# Altium footprint library LIANGJICHAO_LIBRARY.PCBLIB: 178 footprints (part 9 of 12)
Each footprint in its own frame and in the unit in brackets; x right, y up, seen from the top. Pads: shape width x height; smd on the part's side, far side on the other; paste and mask are expansions set on the pad; w line width, h text height; cw(c..) or ccw(c..) is an arc to the next point about the centre after c.
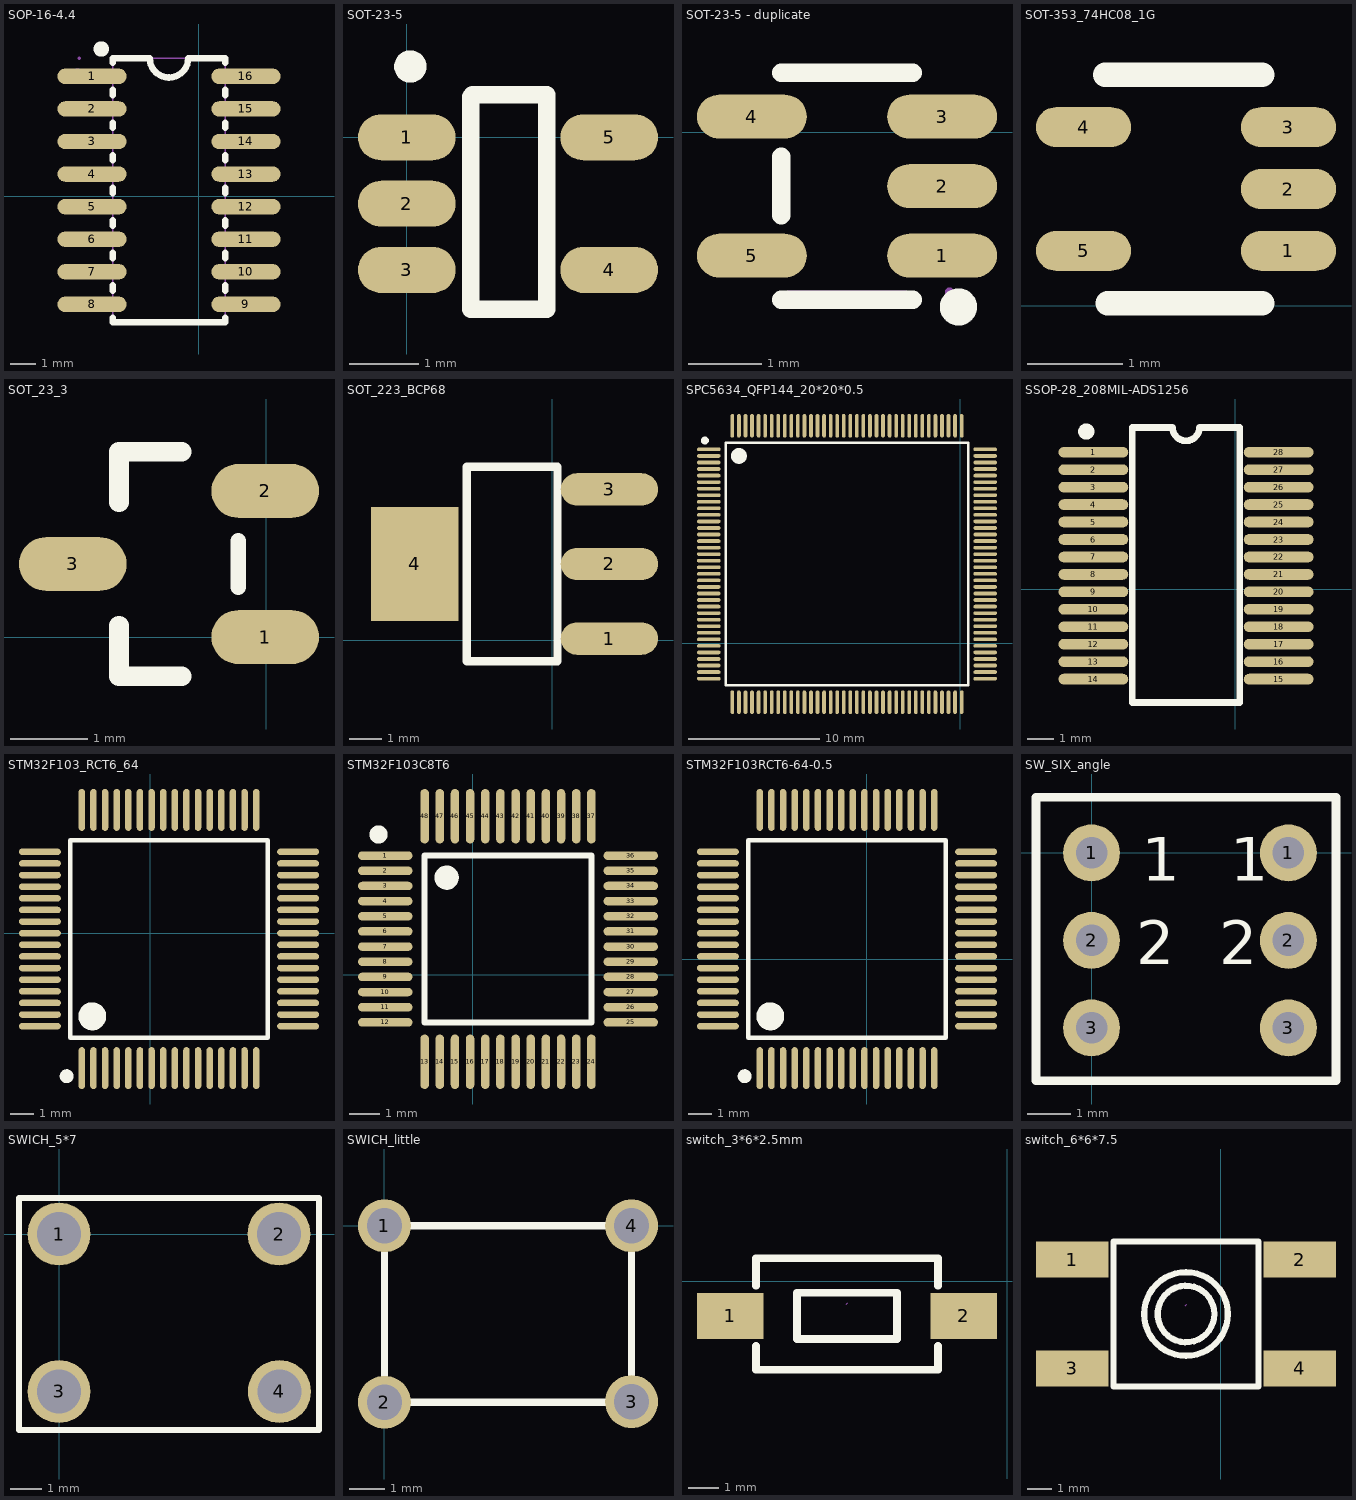
[diagram p8: the footprints below, top view; thin cyan lines are the x and y axes]

## SOP-16-4.4 [mm]
pads (16):
  oval 2.7x0.6 smd: 1(-4.158,4.676) 2(-4.158,3.406) 3(-4.158,2.136) 4(-4.158,0.866) 5(-4.158,-0.404) 6(-4.158,-1.674) 7(-4.158,-2.944) 8(-4.158,-4.214) 9(1.842,-4.214) 10(1.842,-2.944) 11(1.842,-1.674) 12(1.842,-0.404) 13(1.842,0.866) 14(1.842,2.136) 15(1.842,3.406) 16(1.842,4.676)
Top Overlay:
  lines w0.254: -3.358,-4.745 -3.358,-4.919 1.042,-4.919 1.042,-4.745 ; -3.358,-3.683 -3.358,-3.475 ; -3.358,-2.413 -3.358,-2.205 ; -3.358,-1.143 -3.358,-0.935 ; -3.358,0.127 -3.358,0.335 ; -3.358,1.397 -3.358,1.605 ; -3.358,2.667 -3.358,2.875 ; -3.358,3.937 -3.358,4.145 ; -3.358,5.207 -3.358,5.381 -1.908,5.381 ; -1.909,5.381 ccw(c-1.159,5.381) -0.408,5.381 1.042,5.381 1.042,5.207 ; 1.042,-3.683 1.042,-3.475 ; 1.042,-2.413 1.042,-2.205 ; 1.042,-1.143 1.042,-0.935 ; 1.042,0.127 1.042,0.335 ; 1.042,1.397 1.042,1.605 ; 1.042,2.667 1.042,2.875 ; 1.042,3.937 1.042,4.145
  lines w0.3: -3.65,5.742 cw(c-3.8,5.743) -3.95,5.743 cw(c-3.8,5.743) -3.65,5.744
Mechanical 6:
  circle w0.3: c-4.739,4.676 r0.15
Mechanical 15:
  drawing of 37 lines, arcs and shapes, not listed

## SOT-23-5 [mm]
pads (5):
  oval 1.4x0.66 smd: 1(0,0) 2(0,-0.95) 3(0,-1.9) 4(2.9,-1.9) 5(2.9,0)
Top Overlay:
  circle w0.254: c0.051,1.016 r0.105
  lines w0.254: 0.914,-2.464 0.914,0.584 0.94,0.61 2.007,0.61 2.007,-2.464 1.448,-2.464 0.914,-2.464

## SOT-23-5 - duplicate [mm]
pads (5):
  oval 1.5x0.6 smd: 1(4.953,-1.687) 2(4.953,-0.737) 3(4.953,0.213) 4(2.353,0.213) 5(2.353,-1.687)
Top Overlay:
  circle w0.254: c5.177,-2.388 r0.127
  lines w0.254: 2.753,-2.287 4.553,-2.287 ; 2.753,-1.137 2.753,-0.337 ; 2.753,0.813 4.553,0.813
Mechanical 15:
  region: 2.253,-1.887 2.253,-1.487 2.703,-1.487 2.703,-1.887
  region: 2.693,-1.887 2.693,-1.487 2.863,-1.487 2.863,-1.887
  region: 2.253,0.013 2.253,0.413 2.703,0.413 2.703,0.013
  region: 2.693,0.013 2.693,0.413 2.863,0.413 2.863,0.013
  region: 4.603,0.013 4.603,0.413 5.053,0.413 5.053,0.013
  region: 4.443,0.013 4.443,0.413 4.613,0.413 4.613,0.013
  region: 4.603,-0.937 4.603,-0.537 5.053,-0.537 5.053,-0.937
  region: 4.443,-0.937 4.443,-0.537 4.613,-0.537 4.613,-0.937
  region: 4.603,-1.887 4.603,-1.487 5.053,-1.487 5.053,-1.887
  region: 4.443,-1.887 4.443,-1.487 4.613,-1.487 4.613,-1.887
  region: 5.113,-2.187 5.113,-2.162 5.078,-2.127 5.028,-2.127 4.993,-2.162 4.993,-2.187 4.993,-2.212 5.028,-2.247 5.078,-2.247 5.113,-2.212
  lines w0.051: 2.853,-2.187 4.453,-2.187 ; 2.853,0.713 4.453,0.713

## SOT-353_74HC08_1G [mm]
pads (5):
  oval 1x0.42 smd: 1(-5.414,0.578) 2(-5.414,1.228) 3(-5.414,1.878) 4(-7.564,1.878) 5(-7.564,0.578)
Top Overlay:
  lines w0.254: -7.339,2.428 -5.689,2.428 ; -7.314,0.028 -5.689,0.028

## SOT_23_3 [mm]
pads (3):
  oval 1.4x0.7 smd: 1(-0.017,0) 2(-0.017,1.9) 3(-2.517,0.95)
Top Overlay:
  lines w0.2: -0.367,0.65 -0.367,1.25
  lines w0.254: -1.917,0.15 -1.917,-0.51 -1.102,-0.51 ; -1.102,2.41 -1.917,2.41 ; -1.917,1.75 -1.917,2.41 ; -1.917,1.75 -1.917,2.41 ; -1.917,1.75 -1.917,2.41

## SOT_223_BCP68 [mm]
pads (4):
  oval 3x1 smd: 1(1.757,0.053) 2(1.757,2.353) 3(1.757,4.653)
  rect 2.7x3.5 smd: 4(-4.243,2.353)
Top Overlay:
  lines w0.254: -2.643,-0.647 -2.643,5.353 0.157,5.353 0.157,-0.647 -2.643,-0.647

## SPC5634_QFP144_20*20*0.5 [mm]
pads (144):
  oval 1.8x0.28 smd: 1(-19.195,14.802) 2(-19.195,14.302) 3(-19.195,13.802) 4(-19.195,13.302) 5(-19.195,12.802) 6(-19.195,12.302) 7(-19.195,11.802) 8(-19.195,11.302) 9(-19.195,10.802) 10(-19.195,10.302) 11(-19.195,9.802) 12(-19.195,9.302) 13(-19.195,8.802) 14(-19.195,8.302) 15(-19.195,7.802) 16(-19.195,7.302) 17(-19.195,6.802) 18(-19.195,6.302) 19(-19.195,5.802) 20(-19.195,5.302) 21(-19.195,4.802) 22(-19.195,4.302) 23(-19.195,3.802) 24(-19.195,3.302) 25(-19.195,2.802) 26(-19.195,2.302) 27(-19.195,1.802) 28(-19.195,1.302) 29(-19.195,0.802) 30(-19.195,0.302) 31(-19.195,-0.198) 32(-19.195,-0.698) 33(-19.195,-1.198) 34(-19.195,-1.698) 35(-19.195,-2.198) 36(-19.195,-2.698) 73(1.905,-2.698) 74(1.905,-2.198) 75(1.905,-1.698) 76(1.905,-1.198) 77(1.905,-0.698) 78(1.905,-0.198) 79(1.905,0.302) 80(1.905,0.802) 81(1.905,1.302) 82(1.905,1.802) 83(1.905,2.302) 84(1.905,2.802) 85(1.905,3.302) 86(1.905,3.802) 87(1.905,4.302) 88(1.905,4.802) 89(1.905,5.302) 90(1.905,5.802) 91(1.905,6.302) 92(1.905,6.802) 93(1.905,7.302) 94(1.905,7.802) 95(1.905,8.302) 96(1.905,8.802) 97(1.905,9.302) 98(1.905,9.802) 99(1.905,10.302) 100(1.905,10.802) 101(1.905,11.302) 102(1.905,11.802) 103(1.905,12.302) 104(1.905,12.802) 105(1.905,13.302) 106(1.905,13.802) 107(1.905,14.302) 108(1.905,14.802)
  oval 0.28x1.8 smd: 37(-17.395,-4.498) 38(-16.895,-4.498) 39(-16.395,-4.498) 40(-15.895,-4.498) 41(-15.395,-4.498) 42(-14.895,-4.498) 43(-14.395,-4.498) 44(-13.895,-4.498) 45(-13.395,-4.498) 46(-12.895,-4.498) 47(-12.395,-4.498) 48(-11.895,-4.498) 49(-11.395,-4.498) 50(-10.895,-4.498) 51(-10.395,-4.498) 52(-9.895,-4.498) 53(-9.395,-4.498) 54(-8.895,-4.498) 55(-8.395,-4.498) 56(-7.895,-4.498) 57(-7.395,-4.498) 58(-6.895,-4.498) 59(-6.395,-4.498) 60(-5.895,-4.498) 61(-5.395,-4.498) 62(-4.895,-4.498) 63(-4.395,-4.498) 64(-3.895,-4.498) 65(-3.395,-4.498) 66(-2.895,-4.498) 67(-2.395,-4.498) 68(-1.895,-4.498) 69(-1.395,-4.498) 70(-0.895,-4.498) 71(-0.395,-4.498) 72(0.105,-4.498) 109(0.105,16.602) 110(-0.395,16.602) 111(-0.895,16.602) 112(-1.395,16.602) 113(-1.895,16.602) 114(-2.395,16.602) 115(-2.895,16.602) 116(-3.395,16.602) 117(-3.895,16.602) 118(-4.395,16.602) 119(-4.895,16.602) 120(-5.395,16.602) 121(-5.895,16.602) 122(-6.395,16.602) 123(-6.895,16.602) 124(-7.395,16.602) 125(-7.895,16.602) 126(-8.395,16.602) 127(-8.895,16.602) 128(-9.395,16.602) 129(-9.895,16.602) 130(-10.395,16.602) 131(-10.895,16.602) 132(-11.395,16.602) 133(-11.895,16.602) 134(-12.395,16.602) 135(-12.895,16.602) 136(-13.395,16.602) 137(-13.895,16.602) 138(-14.395,16.602) 139(-14.895,16.602) 140(-15.395,16.602) 141(-15.895,16.602) 142(-16.395,16.602) 143(-16.895,16.602) 144(-17.395,16.602)
Top Overlay:
  circle w0.6: c-16.895,14.302 r0.3
  circle w0.3: c-19.495,15.477 r0.15
  lines w0.2: -17.895,-3.198 -17.895,15.302 0.605,15.302 0.605,-3.198 -17.895,-3.198

## SSOP-28_208MIL-ADS1256 [mm]
pads (28):
  oval 2.6x0.4 smd: 1(-5.276,5.105) 2(-5.276,4.455) 3(-5.276,3.805) 4(-5.276,3.155) 5(-5.276,2.505) 6(-5.276,1.855) 7(-5.276,1.205) 8(-5.276,0.555) 9(-5.276,-0.095) 10(-5.276,-0.745) 11(-5.276,-1.395) 12(-5.276,-2.045) 13(-5.276,-2.695) 14(-5.276,-3.345) 15(1.624,-3.345) 16(1.624,-2.695) 17(1.624,-2.045) 18(1.624,-1.395) 19(1.624,-0.745) 20(1.624,-0.095) 21(1.624,0.555) 22(1.624,1.205) 23(1.624,1.855) 24(1.624,2.505) 25(1.624,3.155) 26(1.624,3.805) 27(1.624,4.455) 28(1.624,5.105)
Top Overlay:
  circle w0.3: c-5.541,5.877 r0.15
  lines w0.254: -3.826,-4.22 0.174,-4.22 0.174,6.03 -1.326,6.03 cw(c-1.826,6.03) -2.326,6.03 -3.826,6.03 -3.826,-4.22

## STM32F103_RCT6_64 [mm]
pads (64):
  oval 0.28x1.8 smd: 1(-2.954,-5.793) 2(-2.454,-5.793) 3(-1.954,-5.793) 4(-1.454,-5.793) 5(-0.954,-5.793) 6(-0.454,-5.793) 7(0.046,-5.793) 8(0.546,-5.793) 9(1.046,-5.793) 10(1.546,-5.793) 11(2.046,-5.793) 12(2.546,-5.793) 13(3.046,-5.793) 14(3.546,-5.793) 15(4.046,-5.793) 16(4.546,-5.793) 33(4.546,5.307) 34(4.046,5.307) 35(3.546,5.307) 36(3.046,5.307) 37(2.546,5.307) 38(2.046,5.307) 39(1.546,5.307) 40(1.046,5.307) 41(0.546,5.307) 42(0.046,5.307) 43(-0.454,5.307) 44(-0.954,5.307) 45(-1.454,5.307) 46(-1.954,5.307) 47(-2.454,5.307) 48(-2.954,5.307)
  oval 1.8x0.28 smd: 17(6.346,-3.993) 18(6.346,-3.493) 19(6.346,-2.993) 20(6.346,-2.493) 21(6.346,-1.993) 22(6.346,-1.493) 23(6.346,-0.993) 24(6.346,-0.493) 25(6.346,0.007) 26(6.346,0.507) 27(6.346,1.007) 28(6.346,1.507) 29(6.346,2.007) 30(6.346,2.507) 31(6.346,3.007) 32(6.346,3.507) 49(-4.754,3.507) 50(-4.754,3.007) 51(-4.754,2.507) 52(-4.754,2.007) 53(-4.754,1.507) 54(-4.754,1.007) 55(-4.754,0.507) 56(-4.754,0.007) 57(-4.754,-0.493) 58(-4.754,-0.993) 59(-4.754,-1.493) 60(-4.754,-1.993) 61(-4.754,-2.493) 62(-4.754,-2.993) 63(-4.754,-3.493) 64(-4.754,-3.993)
Top Overlay:
  circle w0.3: c-3.604,-6.143 r0.15
  circle w0.6: c-2.504,-3.568 r0.3
  lines w0.2: -3.454,-4.493 5.046,-4.493 5.046,4.007 -3.454,4.007 -3.454,-4.493

## STM32F103C8T6 [mm]
pads (48):
  oval 1.8x0.28 smd: 1(-2.894,3.934) 2(-2.894,3.434) 3(-2.894,2.934) 4(-2.894,2.434) 5(-2.894,1.934) 6(-2.894,1.434) 7(-2.894,0.934) 8(-2.894,0.434) 9(-2.894,-0.066) 10(-2.894,-0.566) 11(-2.894,-1.066) 12(-2.894,-1.566) 25(5.206,-1.566) 26(5.206,-1.066) 27(5.206,-0.566) 28(5.206,-0.066) 29(5.206,0.434) 30(5.206,0.934) 31(5.206,1.434) 32(5.206,1.934) 33(5.206,2.434) 34(5.206,2.934) 35(5.206,3.434) 36(5.206,3.934)
  oval 0.28x1.8 smd: 13(-1.594,-2.866) 14(-1.094,-2.866) 15(-0.594,-2.866) 16(-0.094,-2.866) 17(0.406,-2.866) 18(0.906,-2.866) 19(1.406,-2.866) 20(1.906,-2.866) 21(2.406,-2.866) 22(2.906,-2.866) 23(3.406,-2.866) 24(3.906,-2.866) 37(3.906,5.234) 38(3.406,5.234) 39(2.906,5.234) 40(2.406,5.234) 41(1.906,5.234) 42(1.406,5.234) 43(0.906,5.234) 44(0.406,5.234) 45(-0.094,5.234) 46(-0.594,5.234) 47(-1.094,5.234) 48(-1.594,5.234)
Top Overlay:
  circle w0.3: c-3.119,4.634 r0.15
  circle w0.4: c-0.869,3.209 r0.2
  lines w0.2: -1.594,-1.566 -1.594,3.934 3.906,3.934 3.906,-1.566 -1.594,-1.566

## STM32F103RCT6-64-0.5 [mm]
pads (64):
  oval 0.28x1.8 smd: 1(-4.601,-4.673) 2(-4.101,-4.673) 3(-3.601,-4.673) 4(-3.101,-4.673) 5(-2.601,-4.673) 6(-2.101,-4.673) 7(-1.601,-4.673) 8(-1.101,-4.673) 9(-0.601,-4.673) 10(-0.101,-4.673) 11(0.399,-4.673) 12(0.899,-4.673) 13(1.399,-4.673) 14(1.899,-4.673) 15(2.399,-4.673) 16(2.899,-4.673) 33(2.899,6.427) 34(2.399,6.427) 35(1.899,6.427) 36(1.399,6.427) 37(0.899,6.427) 38(0.399,6.427) 39(-0.101,6.427) 40(-0.601,6.427) 41(-1.101,6.427) 42(-1.601,6.427) 43(-2.101,6.427) 44(-2.601,6.427) 45(-3.101,6.427) 46(-3.601,6.427) 47(-4.101,6.427) 48(-4.601,6.427)
  oval 1.8x0.28 smd: 17(4.699,-2.873) 18(4.699,-2.373) 19(4.699,-1.873) 20(4.699,-1.373) 21(4.699,-0.873) 22(4.699,-0.373) 23(4.699,0.127) 24(4.699,0.627) 25(4.699,1.127) 26(4.699,1.627) 27(4.699,2.127) 28(4.699,2.627) 29(4.699,3.127) 30(4.699,3.627) 31(4.699,4.127) 32(4.699,4.627) 49(-6.401,4.627) 50(-6.401,4.127) 51(-6.401,3.627) 52(-6.401,3.127) 53(-6.401,2.627) 54(-6.401,2.127) 55(-6.401,1.627) 56(-6.401,1.127) 57(-6.401,0.627) 58(-6.401,0.127) 59(-6.401,-0.373) 60(-6.401,-0.873) 61(-6.401,-1.373) 62(-6.401,-1.873) 63(-6.401,-2.373) 64(-6.401,-2.873)
Top Overlay:
  circle w0.3: c-5.251,-5.023 r0.15
  circle w0.6: c-4.151,-2.448 r0.3
  lines w0.2: -5.101,-3.373 3.399,-3.373 3.399,5.127 -5.101,5.127 -5.101,-3.373

## SW_SIX_angle [mm]
pads (6):
  round 1.3 hole 0.72: 1(0,0) 1(4.5,0) 2(0,-2) 2(4.5,-2) 3(0,-4) 3(4.5,-4)
Top Overlay:
  lines w0.2: -1.27,-5.207 -1.27,1.27 5.588,1.27 5.588,-5.207 -1.27,-5.207
  text "2" at 2.921,-2.54 h1
  text "1" at 1.143,-0.635 h1
  text "2" at 1.016,-2.54 h1
  text "1" at 3.175,-0.635 h1

## SWICH_5*7 [mm]
pads (4):
  round 2 hole 1.4: 1(0,0) 2(6.985,0) 3(0,-5) 4(7,-5)
Top Overlay:
  lines w0.2: -1.27,-6.223 -1.27,1.143 8.255,1.143 8.255,0 8.255,-6.223 -1.27,-6.223

## SWICH_little [mm]
pads (4):
  round 1.5 hole 1: 1(0,0) 2(0,-5) 3(7,-4.985) 4(7,0)
Top Overlay:
  lines w0.2: 6.985,-5 0,-5 0,0 7,0 7,-4.985

## switch_3*6*2.5mm [mil]
pads (2):
  rect 86.61x60 smd: 1(-359.57,-45) 2(-56.42,-45)
Top Overlay:
  lines w10: -326.1,-84.1 -326.1,-115 -92.99,-115 ; -326.1,-5.9 -326.1,30 -89.89,30 -89.89,-5.9 ; -89.89,-115 -89.89,-84.1 ; -272.99,-75 -272.99,-15 -142.99,-15 -142.99,-75 -272.99,-75
Mechanical 15:
  lines w0.1: -208.99,-29.75 -206.99,-27.75

## switch_6*6*7.5 [mm]
pads (4):
  rect 3x1.5 smd: 1(-6.144,11.244) 2(3.256,11.244) 3(-6.144,6.744) 4(3.256,6.744)
Top Overlay:
  circle w0.254: c-1.444,8.994 r1.171
  circle w0.254: c-1.444,8.994 r1.727
  lines w0.254: -4.444,5.994 -4.444,11.994 1.556,11.994 1.556,5.994 -4.444,5.994
Mechanical 15:
  lines w0.003: -1.469,9.342 -1.418,9.393